# EAGLE library part ADP7142ARDZ-R7 (library ADP7142ARDZ-R7)
40 V, 200 mA, Low Noise, CMOS LDO Linear Regulator Source: Datasheet <https://www.analog.com/ADP7142/datasheet>
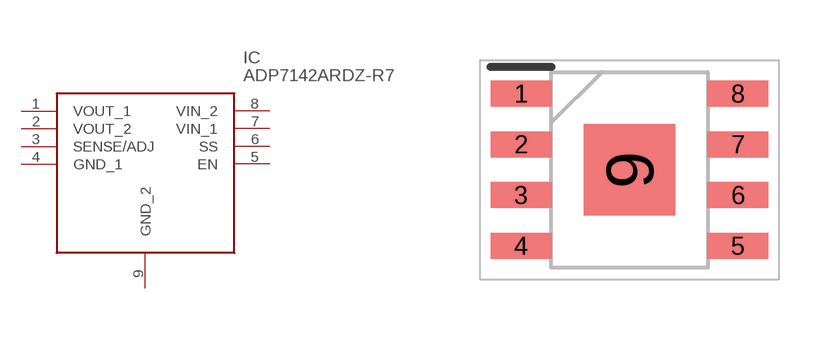
[diagram p0: symbol with the pads of SOIC127P600X175-9N; footprint SOIC127P600X175-9N]

Designator prefix IC

## ADP7142ARDZ-R7 (Description: 40 V, 200 mA, Low Noise, CMOS LDO Linear Regulator; Height: 1.75mm; Manufacturer_Name: Analog Devices; Manufacturer_Part_Number: ADP7142ARDZ-R7; Mouser_Part_Number: 584-ADP7142ARDZ-R7; Mouser_Price-Stock: https://www.mouser.co.uk/ProductDetail/Analog-Devices/ADP7142ARDZ-R7?qs=hpwIUhX6lWzjrObMcOmL6g%3D%3D)  [SOIC127P600X175-9N]
1  VOUT_1
2  VOUT_2
3  SENSE/ADJ
4  GND_1
5  EN
6  SS
7  VIN_1
8  VIN_2
9  GND_2

## Footprint SOIC127P600X175-9N (pad centres in mm)
(RD-8-1)
smd 1.525 x 0.65: 1 -2.712,1.905; 2 -2.712,0.635; 3 -2.712,-0.635; 4 -2.712,-1.905; 5 2.712,-1.905; 6 2.712,-0.635; 7 2.712,0.635; 8 2.712,1.905
smd 2.29 x 2.29: 9 0,0